# Altium integrated library TI Power Management Battery Management.IntLib: 949 symbols (part 24 of 62)
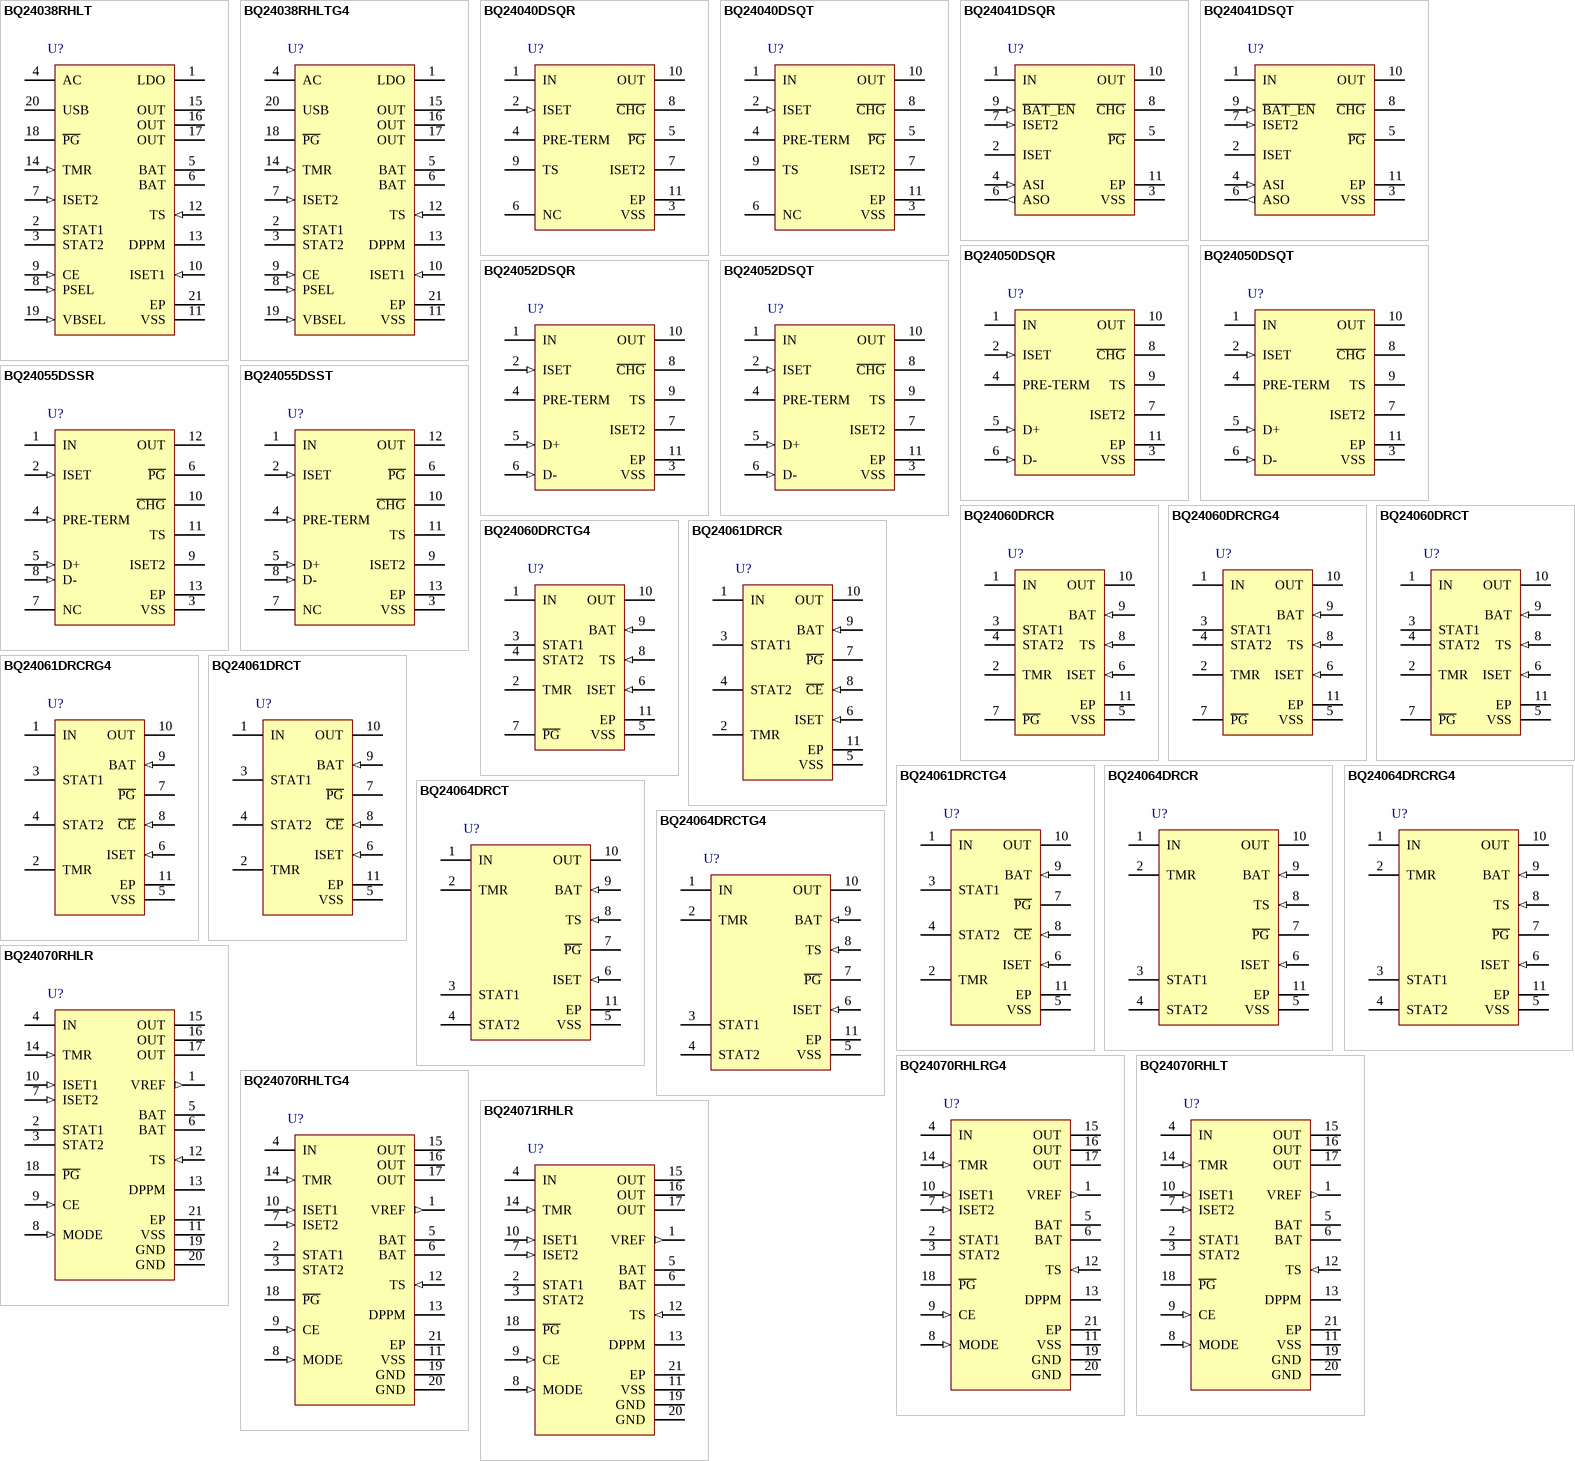
[diagram p57: symbols BQ24038RHLT to BQ24071RHLR]

## BQ24050DSQR
designator U?
800 mA, Single-Input, Single Cell Li-Ion Battery Charger with Automatic AC / USB Detection. Rntc=10k, 3.5 V, 10-pin SON (DSQ), Green (RoHS & no Sb/Br); PartNumber: BQ24050DSQR; Manufacturer: Texas Instruments; Lead Acid: N; SubFamily: Battery Charge Management; Vin(Min)(V): 3.5; DatasheetVersion: SLUS940B; PackageVersion: revB, Apr-2010; PackageReference: DSQ10-1500X900TP; PackageDescription: 10-Pin Plastic Small Outline No-Lead, 2 x 2 x 0.8 mm Body, 0.4 mm Pitch, Exposed Pad; Supplier 1: Digi-Key; Supplier Part Number 1: BQ24050DSQR-ND; Supplier 2: Newark; Supplier Part Number 2: 50R7515; Supplier 3: Mouser; Supplier Part Number 3: 595-BQ24050DSQR; Eco-Plan: Green (RoHS & no Sb/Br); Li-Ion: N; Li-Polymer: N; NiCd: N; NiMH: N; Over Voltage Protection: N; Mounting Technology: Surface Mount; ComponentLink1Description: Datasheet; ComponentLink1URL: http://www.ti.com/general/docs/lit/getliterature.tsp?genericPartNumber=BQ24050&fileType=pdf
footprint DSQ10-1500X900TP (SON, 10-Leads, Body 2x2mm, Pitch 0.4mm, Thermal Pad 1.5x0.9mm, TI Recommended)
pins: 1 IN (power) "Input power, connected to external DC supply (AC adapter or USB port). Expected range of bypass capacitors 1 uF to 10 uF, connect from IN to VSS.", 2 ISET (in) "Programs the Fast-charge current setting. External resistor from ISET to VSS defines fast charge current value. Range is 10.8k (50mA) to 675 ohm (800mA).", 3 VSS (power) "Ground terminal.", 4 PRE-TERM "Programs the Current Termination Threshold (5 to 50% of Iout which is set by ISET) and Sets the Pre-Charge Current to twice the Termination Current Level. Expected range of programming resistor is 1k to 10 k ohm(2k: IOUT / (See Datasheet)", 5 D+ (in) "USB port D+ input connection.", 6 D- (in) "USB port D- input connection.", 7 ISET2 "Programming the Input / Output Current Limit for the USB or Adaptor source: High =500 mA max, Low = ISET, FLOAT = 100mA max. D+ D- Detection initially sets the charge threshold and requires ISET2 to change states to take (See Datasheet)", 8 ~{CHG} (hiz) "Low (FET on) indicates charging and Open Drain (FET off) indicates no Charging or Charge complete.", 9 TS "Temperature sense pin connected to ' 0/55 -10k at 25C NTC thermistor, ' 2 - 100k NTC at 25 degC, in the battery pack. Floating TS Pin or pulling High puts part in TTDM and disable TS monitoring, Timers and Termination. (See Datasheet)", 10 OUT (power) "Battery Connection. System Load may be connected. Average load should not be excessive, allowing battery to charge within the 10 hour safety timer window. Expected range of bypass capacitors 1 uF to 10 uF.", 11 EP (power) "There is an internal electrical connection between the exposed thermal pad and the VSS pin of the device. The thermal pad must be connected to the same potential as the VSS pin on the printed circuit board. Do not use the (See Datasheet)"

## BQ24050DSQT
designator U?
800 mA, Single-Input, Single Cell Li-Ion Battery Charger with Automatic AC / USB Detection. Rntc=10k, 3.5 V, 10-pin SON (DSQ), Green (RoHS & no Sb/Br); PartNumber: BQ24050DSQT; Manufacturer: Texas Instruments; Lead Acid: N; SubFamily: Battery Charge Management; Vin(Min)(V): 3.5; DatasheetVersion: SLUS940B; PackageVersion: revB, Apr-2010; PackageReference: DSQ10-1500X900TP; PackageDescription: 10-Pin Plastic Small Outline No-Lead, 2 x 2 x 0.8 mm Body, 0.4 mm Pitch, Exposed Pad; Supplier 1: Digi-Key; Supplier Part Number 1: 296-25138-2-ND; Supplier 2: Digi-Key; Supplier Part Number 2: 296-25138-1-ND; Supplier 3: Digi-Key; Supplier Part Number 3: 296-25138-6-ND; Supplier 4: Farnell; Supplier Part Number 4: 1771741; Supplier 5: Farnell; Supplier Part Number 5: 1771741RL; Supplier 6: Newark; Supplier Part Number 6: 29R0265; Supplier 7: Mouser; Supplier Part Number 7: 595-BQ24050DSQT; Eco-Plan: Green (RoHS & no Sb/Br); Li-Ion: N; Li-Polymer: N; NiCd: N; NiMH: N; Over Voltage Protection: N; Mounting Technology: Surface Mount; ComponentLink1Description: Datasheet; ComponentLink1URL: http://www.ti.com/general/docs/lit/getliterature.tsp?genericPartNumber=BQ24050&fileType=pdf
footprint DSQ10-1500X900TP (SON, 10-Leads, Body 2x2mm, Pitch 0.4mm, Thermal Pad 1.5x0.9mm, TI Recommended)
pins: 1 IN (power) "Input power, connected to external DC supply (AC adapter or USB port). Expected range of bypass capacitors 1 uF to 10 uF, connect from IN to VSS.", 2 ISET (in) "Programs the Fast-charge current setting. External resistor from ISET to VSS defines fast charge current value. Range is 10.8k (50mA) to 675 ohm (800mA).", 3 VSS (power) "Ground terminal.", 4 PRE-TERM "Programs the Current Termination Threshold (5 to 50% of Iout which is set by ISET) and Sets the Pre-Charge Current to twice the Termination Current Level. Expected range of programming resistor is 1k to 10 k ohm(2k: IOUT / (See Datasheet)", 5 D+ (in) "USB port D+ input connection.", 6 D- (in) "USB port D- input connection.", 7 ISET2 "Programming the Input / Output Current Limit for the USB or Adaptor source: High =500 mA max, Low = ISET, FLOAT = 100mA max. D+ D- Detection initially sets the charge threshold and requires ISET2 to change states to take (See Datasheet)", 8 ~{CHG} (hiz) "Low (FET on) indicates charging and Open Drain (FET off) indicates no Charging or Charge complete.", 9 TS "Temperature sense pin connected to ' 0/55 -10k at 25C NTC thermistor, ' 2 - 100k NTC at 25 degC, in the battery pack. Floating TS Pin or pulling High puts part in TTDM and disable TS monitoring, Timers and Termination. (See Datasheet)", 10 OUT (power) "Battery Connection. System Load may be connected. Average load should not be excessive, allowing battery to charge within the 10 hour safety timer window. Expected range of bypass capacitors 1 uF to 10 uF.", 11 EP (power) "There is an internal electrical connection between the exposed thermal pad and the VSS pin of the device. The thermal pad must be connected to the same potential as the VSS pin on the printed circuit board. Do not use the (See Datasheet)"

## BQ24052DSQR
designator U?
800 mA, Single-Input, Single Cell Li-Ion Battery Charger with Automatic AC / USB Detection, Rntc=100k, 3.5 V, 10-pin SON (DSQ), Green (RoHS & no Sb/Br); PartNumber: BQ24052DSQR; Manufacturer: Texas Instruments; Lead Acid: N; SubFamily: Battery Charge Management; Vin(Min)(V): 3.5; DatasheetVersion: SLUS940B; PackageVersion: revB, Apr-2010; PackageReference: DSQ10-1500X900TP; PackageDescription: 10-Pin Plastic Small Outline No-Lead, 2 x 2 x 0.8 mm Body, 0.4 mm Pitch, Exposed Pad; Supplier 1: Digi-Key; Supplier Part Number 1: BQ24052DSQR-ND; Supplier 2: Mouser; Supplier Part Number 2: 595-BQ24052DSQR; Eco-Plan: Green (RoHS & no Sb/Br); Li-Ion: N; Li-Polymer: N; NiCd: N; NiMH: N; Over Voltage Protection: N; Mounting Technology: Surface Mount; ComponentLink1Description: Datasheet; ComponentLink1URL: http://www.ti.com/general/docs/lit/getliterature.tsp?genericPartNumber=BQ24052&fileType=pdf
footprint DSQ10-1500X900TP (SON, 10-Leads, Body 2x2mm, Pitch 0.4mm, Thermal Pad 1.5x0.9mm, TI Recommended)
pins: 1 IN (power) "Input power, connected to external DC supply (AC adapter or USB port). Expected range of bypass capacitors 1 uF to 10 uF, connect from IN to VSS.", 2 ISET (in) "Programs the Fast-charge current setting. External resistor from ISET to VSS defines fast charge current value. Range is 10.8k  (50mA) to 675 ohm (800mA).", 3 VSS (power) "Ground terminal", 4 PRE-TERM "Programs the Current Termination Threshold (5 to 50% of Iout which is set by ISET) and Sets the Pre-Charge Current to twice the Termination Current Level.Expected range of programming resistor is 1k to 10k ohm (2k: IOUT/10 (See Datasheet)", 5 D+ (in) "USB port D+ input connection", 6 D- (in) "USB port D- input connection", 7 ISET2 "Programming the Input/Output Current Limit for the USB or Adaptor source: High = 500mAmax, Low = ISET, FLOAT = 100mA max. D+D- Detection initially sets the charge threshold and requires ISET2 to change states to take control.", 8 ~{CHG} (hiz) "Low (FET on) indicates charging and Open Drain (FET off) indicates no Charging or Charge complete.", 9 TS "Temperature sense pin connected to 100k NTC at 25 degC, in the battery pack. Floating TS Pin or pulling High puts part in TTDM and disable TS monitoring, Timers and Termination. Pulling pin Low disables the IC (CE function). (See Datasheet)", 10 OUT (power) "Battery Connection. System Load may be connected. Average load should not be excessive, allowing battery to charge within the 10 hour safety timer window. Expected range of bypass capacitors 1uF to 10uF.", 11 EP (power) "There is an internal electrical connection between the exposed thermal pad and the VSS pin of the device. The thermal pad must be connected to the same potential as the VSS pin on the printed circuit board. Do not use the (See Datasheet)"

## BQ24052DSQT
designator U?
800 mA, Single-Input, Single Cell Li-Ion Battery Charger with Automatic AC / USB Detection, Rntc=100k, 3.5 V, 10-pin SON (DSQ), Green (RoHS & no Sb/Br); PartNumber: BQ24052DSQT; Manufacturer: Texas Instruments; Lead Acid: N; SubFamily: Battery Charge Management; Vin(Min)(V): 3.5; DatasheetVersion: SLUS940B; PackageVersion: revB, Apr-2010; PackageReference: DSQ10-1500X900TP; PackageDescription: 10-Pin Plastic Small Outline No-Lead, 2 x 2 x 0.8 mm Body, 0.4 mm Pitch, Exposed Pad; Supplier 1: Digi-Key; Supplier Part Number 1: 296-25139-2-ND; Supplier 2: Digi-Key; Supplier Part Number 2: 296-25139-1-ND; Supplier 3: Digi-Key; Supplier Part Number 3: 296-25139-6-ND; Supplier 4: Newark; Supplier Part Number 4: 50R7517; Supplier 5: Mouser; Supplier Part Number 5: 595-BQ24052DSQT; Eco-Plan: Green (RoHS & no Sb/Br); Li-Ion: N; Li-Polymer: N; NiCd: N; NiMH: N; Over Voltage Protection: N; Mounting Technology: Surface Mount; ComponentLink1Description: Datasheet; ComponentLink1URL: http://www.ti.com/general/docs/lit/getliterature.tsp?genericPartNumber=BQ24052&fileType=pdf
footprint DSQ10-1500X900TP (SON, 10-Leads, Body 2x2mm, Pitch 0.4mm, Thermal Pad 1.5x0.9mm, TI Recommended)
pins: 1 IN (power) "Input power, connected to external DC supply (AC adapter or USB port). Expected range of bypass capacitors 1 uF to 10 uF, connect from IN to VSS.", 2 ISET (in) "Programs the Fast-charge current setting. External resistor from ISET to VSS defines fast charge current value. Range is 10.8k  (50mA) to 675 ohm (800mA).", 3 VSS (power) "Ground terminal", 4 PRE-TERM "Programs the Current Termination Threshold (5 to 50% of Iout which is set by ISET) and Sets the Pre-Charge Current to twice the Termination Current Level.Expected range of programming resistor is 1k to 10k ohm (2k: IOUT/10 (See Datasheet)", 5 D+ (in) "USB port D+ input connection", 6 D- (in) "USB port D- input connection", 7 ISET2 "Programming the Input/Output Current Limit for the USB or Adaptor source: High = 500mAmax, Low = ISET, FLOAT = 100mA max. D+D- Detection initially sets the charge threshold and requires ISET2 to change states to take control.", 8 ~{CHG} (hiz) "Low (FET on) indicates charging and Open Drain (FET off) indicates no Charging or Charge complete.", 9 TS "Temperature sense pin connected to 100k NTC at 25 degC, in the battery pack. Floating TS Pin or pulling High puts part in TTDM and disable TS monitoring, Timers and Termination. Pulling pin Low disables the IC (CE function). (See Datasheet)", 10 OUT (power) "Battery Connection. System Load may be connected. Average load should not be excessive, allowing battery to charge within the 10 hour safety timer window. Expected range of bypass capacitors 1uF to 10uF.", 11 EP (power) "There is an internal electrical connection between the exposed thermal pad and the VSS pin of the device. The thermal pad must be connected to the same potential as the VSS pin on the printed circuit board. Do not use the (See Datasheet)"

## BQ24055DSSR
designator U?
800 mA, Single-Input, Single Cell Li-Ion Battery Charger with Automatic AC / USB Detection and PG, 3.5 V, 12-pin SON (DSS), Green (RoHS & no Sb/Br); PartNumber: BQ24055DSSR; Manufacturer: Texas Instruments; Lead Acid: N; SubFamily: Battery Charge Management; Vin(Min)(V): 3.5; DatasheetVersion: SLUS940B; PackageVersion: revC, Jul-2011; PackageReference: DSS12-2000X900TP; PackageDescription: 12-Pin Plastic Small Outline No-Lead, 2 x 3 x 0.8 mm Body, 0.5 mm Pitch, Exposed Pad; Supplier 1: Digi-Key; Supplier Part Number 1: BQ24055DSSR-ND; Supplier 2: Newark; Supplier Part Number 2: 50R7518; Supplier 3: Mouser; Supplier Part Number 3: 595-BQ24055DSSR; Eco-Plan: Green (RoHS & no Sb/Br); Li-Ion: N; Li-Polymer: N; NiCd: N; NiMH: N; Over Voltage Protection: N; Mounting Technology: Surface Mount; ComponentLink1Description: Datasheet; ComponentLink1URL: http://www.ti.com/general/docs/lit/getliterature.tsp?genericPartNumber=BQ24055&fileType=pdf
footprint DSS12-2000X900TP (SON, 12-Leads, Body 2x3mm, Pitch 0.5mm, Thermal Pad 2x0.9mm, TI Recommended)
pins: 1 IN (power) "Input power, connected to external DC supply (AC adapter or USB port). Expected range of bypass capacitors 1uF to 10uF, connect from IN to VSS.", 2 ISET (in) "Programs the Fast-charge current setting. External resistor from ISET to VSS defines fast charge current value. Range is 10.8k (50mA) to 675 ohm (800mA).", 3 VSS (power) "Ground terminal", 4 PRE-TERM (in) "Programs the Current Termination Threshold (5 to 50% of Iout which is set by ISET) and Sets the Pre-Charge Current to twice the Termination Current Level.Expected range of programming resistor is 1k to 10k ohm (2k: IOUT/10 (See Datasheet)", 5 D+ (in) "USB port D+ input connection", 6 ~{PG} (hiz) "Low (FET on) indicates the input voltage is above UVLO and the OUT (battery) voltage and less than VOVP", 7 NC "Do not make connection to this pin (internal use) - Do not route through this pin", 8 D- (in) "USB port D- input connection", 9 ISET2 "Programming the Input/Output Current Limit for the USB or Adaptor source: High = 500mAmax, Low = ISET, FLOAT = 100mA max. D+D- Detection initially sets the charge threshold and requires ISET2 to change states to take control.", 10 ~{CHG} (hiz) "Low (FET on) indicates charging and Open Drain (FET off) indicates no Charging or Charge complete.", 11 TS "Temperature sense pin connected to ‘50/55 -10k at 25C NTC thermistor,  in the battery pack. Floating TS Pin or pulling High puts part in TTDM and disable TS monitoring, Timers and Termination. Pulling pin Low disables the IC (See Datasheet)", 12 OUT (power) "Battery Connection. System Load may be connected. Average load should not be excessive, allowing battery to charge within the 10 hour safety timer window. Expected range of bypass capacitors 1uF to 10uF.", 13 EP (power) "There is an internal electrical connection between the exposed thermal pad and the VSS pin of the device. The thermal pad must be connected to the same potential as the VSS pin on the printed circuit board. Do not use the (See Datasheet)"

## BQ24055DSST
designator U?
800 mA, Single-Input, Single Cell Li-Ion Battery Charger with Automatic AC / USB Detection and PG, 3.5 V, 12-pin SON (DSS), Green (RoHS & no Sb/Br); PartNumber: BQ24055DSST; Manufacturer: Texas Instruments; Lead Acid: N; SubFamily: Battery Charge Management; Vin(Min)(V): 3.5; DatasheetVersion: SLUS940B; PackageVersion: revC, Jul-2011; PackageReference: DSS12-2000X900TP; PackageDescription: 12-Pin Plastic Small Outline No-Lead, 2 x 3 x 0.8 mm Body, 0.5 mm Pitch, Exposed Pad; Supplier 1: Digi-Key; Supplier Part Number 1: 296-25140-2-ND; Supplier 2: Digi-Key; Supplier Part Number 2: 296-25140-1-ND; Supplier 3: Digi-Key; Supplier Part Number 3: 296-25140-6-ND; Supplier 4: Farnell; Supplier Part Number 4: 1771742; Supplier 5: Farnell; Supplier Part Number 5: 1771742RL; Supplier 6: Newark; Supplier Part Number 6: 29R0266; Supplier 7: Mouser; Supplier Part Number 7: 595-BQ24055DSST; Eco-Plan: Green (RoHS & no Sb/Br); Li-Ion: N; Li-Polymer: N; NiCd: N; NiMH: N; Over Voltage Protection: N; Mounting Technology: Surface Mount; ComponentLink1Description: Datasheet; ComponentLink1URL: http://www.ti.com/general/docs/lit/getliterature.tsp?genericPartNumber=BQ24055&fileType=pdf
footprint DSS12-2000X900TP (SON, 12-Leads, Body 2x3mm, Pitch 0.5mm, Thermal Pad 2x0.9mm, TI Recommended)
pins: 1 IN (power) "Input power, connected to external DC supply (AC adapter or USB port). Expected range of bypass capacitors 1uF to 10uF, connect from IN to VSS.", 2 ISET (in) "Programs the Fast-charge current setting. External resistor from ISET to VSS defines fast charge current value. Range is 10.8k (50mA) to 675 ohm (800mA).", 3 VSS (power) "Ground terminal", 4 PRE-TERM (in) "Programs the Current Termination Threshold (5 to 50% of Iout which is set by ISET) and Sets the Pre-Charge Current to twice the Termination Current Level.Expected range of programming resistor is 1k to 10k ohm (2k: IOUT/10 (See Datasheet)", 5 D+ (in) "USB port D+ input connection", 6 ~{PG} (hiz) "Low (FET on) indicates the input voltage is above UVLO and the OUT (battery) voltage and less than VOVP", 7 NC "Do not make connection to this pin (internal use) - Do not route through this pin", 8 D- (in) "USB port D- input connection", 9 ISET2 "Programming the Input/Output Current Limit for the USB or Adaptor source: High = 500mAmax, Low = ISET, FLOAT = 100mA max. D+D- Detection initially sets the charge threshold and requires ISET2 to change states to take control.", 10 ~{CHG} (hiz) "Low (FET on) indicates charging and Open Drain (FET off) indicates no Charging or Charge complete.", 11 TS "Temperature sense pin connected to ‘50/55 -10k at 25C NTC thermistor,  in the battery pack. Floating TS Pin or pulling High puts part in TTDM and disable TS monitoring, Timers and Termination. Pulling pin Low disables the IC (See Datasheet)", 12 OUT (power) "Battery Connection. System Load may be connected. Average load should not be excessive, allowing battery to charge within the 10 hour safety timer window. Expected range of bypass capacitors 1uF to 10uF.", 13 EP (power) "There is an internal electrical connection between the exposed thermal pad and the VSS pin of the device. The thermal pad must be connected to the same potential as the VSS pin on the printed circuit board. Do not use the (See Datasheet)"

## BQ24060DRCR
designator U?
Linear 1-Cell Li-Ion Charger with Thermal Regulation, 6.5 V OVP, Temp Sense, 4.3 V, -40 to 85 degC, 10-pin SON (DRC), Green (RoHS & no Sb/Br); PartNumber: BQ24060DRCR; Manufacturer: Texas Instruments; Lead Acid: N; Li-Ion: Y; SubFamily: Battery Charge Management; Vin(Min)(V): 4.3; DatasheetVersion: SLUS689A; PackageVersion: revL, Sep-2011; PackageReference: DRC10-2400X1650TP; PackageDescription: 10-Pin Plastic Small Outline No-Lead, 3 x 3 x 1 mm Body, 0.5 mm Pitch, Exposed Pad; Supplier 1: Digi-Key; Supplier Part Number 1: BQ24060DRCR-ND; Supplier 2: Newark; Supplier Part Number 2: 02M9366; Supplier 3: Mouser; Supplier Part Number 3: 595-BQ24060DRCR; Eco-Plan: Green (RoHS & no Sb/Br); Li-Polymer: Y; NiCd: N; NiMH: N; Over Voltage Protection: N; Mounting Technology: Surface Mount; ComponentLink1Description: Datasheet; ComponentLink1URL: http://www.ti.com/general/docs/lit/getliterature.tsp?genericPartNumber=BQ24060&fileType=pdf
footprint DRC10-2400X1650TP (SON, 10-Leads, Body 3x3mm, Pitch 0.5mm, Thermal Pad 2.4x1.65mm, TI Recommended)
pins: 1 IN (power) "Charge Input Voltage and internal supply. Connect a 1- uF (minimum) capacitor from IN to VSS. CIN>= COUT", 2 TMR "Safety Timer Program Input, timer disabled if floating. Connect a resistor to VSS pin to program safety timer timeout value", 3 STAT1 (hiz) "Charge Status Output 1 (open-collector, seeTable 3)", 4 STAT2 (hiz) "Charge Status Output 2 (open-collector, see Table 3)", 5 VSS (power) "Ground", 6 ISET (in) "Charge current set point, resistor connected from ISET to VSS sets charge current value. Connect a 0.47-uF capaciator from BAT to ISET.", 7 ~{PG} (hiz) "Power Good status output (open-collector), active low", 8 TS (in) "Temperature Sense Input, connect to battery pack thermistor. Connect an external resistive divider to program temperature thresholds.", 9 BAT (in) "Battery Voltage Sense Input. Connect to the battery positive terminal. Connect a 200-ohm resistor from BAT to OUT.", 10 OUT (power) "Charge current output. Connect to the battery positive terminal. Connect a 1- uF (minimum) capacitor from OUT to VSS.", 11 EP (power) "There is an internal electrical connection between the exposed thermal pad and Vss pin of the IC. The exposed thermal pad must be connected to the same potential as the VSS pin on the printed circuit board. Do not use the (See Datasheet)"

## BQ24060DRCRG4
designator U?
Linear 1-Cell Li-Ion Charger with Thermal Regulation, 6.5 V OVP, Temp Sense, 4.3 V, -40 to 85 degC, 10-pin SON (DRC), Green (RoHS & no Sb/Br); PartNumber: BQ24060DRCRG4; Manufacturer: Texas Instruments; Lead Acid: N; Li-Ion: Y; SubFamily: Battery Charge Management; Vin(Min)(V): 4.3; DatasheetVersion: SLUS689A; PackageVersion: revL, Sep-2011; PackageReference: DRC10-2400X1650TP; PackageDescription: 10-Pin Plastic Small Outline No-Lead, 3 x 3 x 1 mm Body, 0.5 mm Pitch, Exposed Pad; Supplier 1: Digi-Key; Supplier Part Number 1: BQ24060DRCRG4-ND; Supplier 2: Newark; Supplier Part Number 2: 03M6538; Supplier 3: Mouser; Supplier Part Number 3: 595-BQ24060DRCRG4; Eco-Plan: Green (RoHS & no Sb/Br); Li-Polymer: Y; NiCd: N; NiMH: N; Over Voltage Protection: N; Mounting Technology: Surface Mount; ComponentLink1Description: Datasheet; ComponentLink1URL: http://www.ti.com/general/docs/lit/getliterature.tsp?genericPartNumber=BQ24060&fileType=pdf
footprint DRC10-2400X1650TP (SON, 10-Leads, Body 3x3mm, Pitch 0.5mm, Thermal Pad 2.4x1.65mm, TI Recommended)
pins: 1 IN (power) "Charge Input Voltage and internal supply. Connect a 1- uF (minimum) capacitor from IN to VSS. CIN>= COUT", 2 TMR "Safety Timer Program Input, timer disabled if floating. Connect a resistor to VSS pin to program safety timer timeout value", 3 STAT1 (hiz) "Charge Status Output 1 (open-collector, seeTable 3)", 4 STAT2 (hiz) "Charge Status Output 2 (open-collector, see Table 3)", 5 VSS (power) "Ground", 6 ISET (in) "Charge current set point, resistor connected from ISET to VSS sets charge current value. Connect a 0.47-uF capaciator from BAT to ISET.", 7 ~{PG} (hiz) "Power Good status output (open-collector), active low", 8 TS (in) "Temperature Sense Input, connect to battery pack thermistor. Connect an external resistive divider to program temperature thresholds.", 9 BAT (in) "Battery Voltage Sense Input. Connect to the battery positive terminal. Connect a 200-ohm resistor from BAT to OUT.", 10 OUT (power) "Charge current output. Connect to the battery positive terminal. Connect a 1- uF (minimum) capacitor from OUT to VSS.", 11 EP (power) "There is an internal electrical connection between the exposed thermal pad and Vss pin of the IC. The exposed thermal pad must be connected to the same potential as the VSS pin on the printed circuit board. Do not use the (See Datasheet)"

## BQ24060DRCT
designator U?
Linear 1-Cell Li-Ion Charger with Thermal Regulation, 6.5 V OVP, Temp Sense, 4.3 V, -40 to 85 degC, 10-pin SON (DRC), Green (RoHS & no Sb/Br); PartNumber: BQ24060DRCT; Manufacturer: Texas Instruments; Lead Acid: N; Li-Ion: Y; SubFamily: Battery Charge Management; Vin(Min)(V): 4.3; DatasheetVersion: SLUS689A; PackageVersion: revL, Sep-2011; PackageReference: DRC10-2400X1650TP; PackageDescription: 10-Pin Plastic Small Outline No-Lead, 3 x 3 x 1 mm Body, 0.5 mm Pitch, Exposed Pad; Supplier 1: Digi-Key; Supplier Part Number 1: 296-19867-2-ND; Supplier 2: Digi-Key; Supplier Part Number 2: 296-19867-1-ND; Supplier 3: Digi-Key; Supplier Part Number 3: 296-19867-6-ND; Supplier 4: Newark; Supplier Part Number 4: 02M9367; Supplier 5: Mouser; Supplier Part Number 5: 595-BQ24060DRCT; Eco-Plan: Green (RoHS & no Sb/Br); Li-Polymer: Y; NiCd: N; NiMH: N; Over Voltage Protection: N; Mounting Technology: Surface Mount; ComponentLink1Description: Datasheet; ComponentLink1URL: http://www.ti.com/general/docs/lit/getliterature.tsp?genericPartNumber=BQ24060&fileType=pdf
footprint DRC10-2400X1650TP (SON, 10-Leads, Body 3x3mm, Pitch 0.5mm, Thermal Pad 2.4x1.65mm, TI Recommended)
pins: 1 IN (power) "Charge Input Voltage and internal supply. Connect a 1- uF (minimum) capacitor from IN to VSS. CIN>= COUT", 2 TMR "Safety Timer Program Input, timer disabled if floating. Connect a resistor to VSS pin to program safety timer timeout value", 3 STAT1 (hiz) "Charge Status Output 1 (open-collector, seeTable 3)", 4 STAT2 (hiz) "Charge Status Output 2 (open-collector, see Table 3)", 5 VSS (power) "Ground", 6 ISET (in) "Charge current set point, resistor connected from ISET to VSS sets charge current value. Connect a 0.47-uF capaciator from BAT to ISET.", 7 ~{PG} (hiz) "Power Good status output (open-collector), active low", 8 TS (in) "Temperature Sense Input, connect to battery pack thermistor. Connect an external resistive divider to program temperature thresholds.", 9 BAT (in) "Battery Voltage Sense Input. Connect to the battery positive terminal. Connect a 200-ohm resistor from BAT to OUT.", 10 OUT (power) "Charge current output. Connect to the battery positive terminal. Connect a 1- uF (minimum) capacitor from OUT to VSS.", 11 EP (power) "There is an internal electrical connection between the exposed thermal pad and Vss pin of the IC. The exposed thermal pad must be connected to the same potential as the VSS pin on the printed circuit board. Do not use the (See Datasheet)"

## BQ24060DRCTG4
designator U?
Linear 1-Cell Li-Ion Charger with Thermal Regulation, 6.5 V OVP, Temp Sense, 4.3 V, -40 to 85 degC, 10-pin SON (DRC), Green (RoHS & no Sb/Br); PartNumber: BQ24060DRCTG4; Manufacturer: Texas Instruments; Lead Acid: N; Li-Ion: Y; SubFamily: Battery Charge Management; Vin(Min)(V): 4.3; DatasheetVersion: SLUS689A; PackageVersion: revL, Sep-2011; PackageReference: DRC10-2400X1650TP; PackageDescription: 10-Pin Plastic Small Outline No-Lead, 3 x 3 x 1 mm Body, 0.5 mm Pitch, Exposed Pad; Supplier 1: Digi-Key; Supplier Part Number 1: BQ24060DRCTG4-ND; Supplier 2: Newark; Supplier Part Number 2: 03M6539; Supplier 3: Mouser; Supplier Part Number 3: 595-BQ24060DRCTG4; Eco-Plan: Green (RoHS & no Sb/Br); Li-Polymer: Y; NiCd: N; NiMH: N; Over Voltage Protection: N; Mounting Technology: Surface Mount; ComponentLink1Description: Datasheet; ComponentLink1URL: http://www.ti.com/general/docs/lit/getliterature.tsp?genericPartNumber=BQ24060&fileType=pdf
footprint DRC10-2400X1650TP (SON, 10-Leads, Body 3x3mm, Pitch 0.5mm, Thermal Pad 2.4x1.65mm, TI Recommended)
pins: 1 IN (power) "Charge Input Voltage and internal supply. Connect a 1- uF (minimum) capacitor from IN to VSS. CIN>= COUT", 2 TMR "Safety Timer Program Input, timer disabled if floating. Connect a resistor to VSS pin to program safety timer timeout value", 3 STAT1 (hiz) "Charge Status Output 1 (open-collector, seeTable 3)", 4 STAT2 (hiz) "Charge Status Output 2 (open-collector, see Table 3)", 5 VSS (power) "Ground", 6 ISET (in) "Charge current set point, resistor connected from ISET to VSS sets charge current value. Connect a 0.47-uF capaciator from BAT to ISET.", 7 ~{PG} (hiz) "Power Good status output (open-collector), active low", 8 TS (in) "Temperature Sense Input, connect to battery pack thermistor. Connect an external resistive divider to program temperature thresholds.", 9 BAT (in) "Battery Voltage Sense Input. Connect to the battery positive terminal. Connect a 200-ohm resistor from BAT to OUT.", 10 OUT (power) "Charge current output. Connect to the battery positive terminal. Connect a 1- uF (minimum) capacitor from OUT to VSS.", 11 EP (power) "There is an internal electrical connection between the exposed thermal pad and Vss pin of the IC. The exposed thermal pad must be connected to the same potential as the VSS pin on the printed circuit board. Do not use the (See Datasheet)"

## BQ24061DRCR
designator U?
Linear 1-Cell Li-Ion Charger with Thermal Regulation, 6.5 V OVP, Charge Enable, 4.3 V, -40 to 85 degC, 10-pin SON (DRC), Green (RoHS & no Sb/Br); PartNumber: BQ24061DRCR; Manufacturer: Texas Instruments; Lead Acid: N; Li-Ion: Y; SubFamily: Battery Charge Management; Vin(Min)(V): 4.3; DatasheetVersion: SLUS689A; PackageVersion: revL, Sep-2011; PackageReference: DRC10-2400X1650TP; PackageDescription: 10-Pin Plastic Small Outline No-Lead, 3 x 3 x 1 mm Body, 0.5 mm Pitch, Exposed Pad; Supplier 1: Digi-Key; Supplier Part Number 1: 296-19868-2-ND; Supplier 2: Digi-Key; Supplier Part Number 2: 296-19868-1-ND; Supplier 3: Digi-Key; Supplier Part Number 3: 296-19868-6-ND; Supplier 4: Newark; Supplier Part Number 4: 02M9368; Supplier 5: Mouser; Supplier Part Number 5: 595-BQ24061DRCR; Eco-Plan: Green (RoHS & no Sb/Br); Li-Polymer: Y; NiCd: N; NiMH: N; Over Voltage Protection: N; Mounting Technology: Surface Mount; ComponentLink1Description: Datasheet; ComponentLink1URL: http://www.ti.com/general/docs/lit/getliterature.tsp?genericPartNumber=BQ24061&fileType=pdf
footprint DRC10-2400X1650TP (SON, 10-Leads, Body 3x3mm, Pitch 0.5mm, Thermal Pad 2.4x1.65mm, TI Recommended)
pins: 1 IN (power) "Charge Input Voltage and internal supply. Connect a 1- uF (minimum) capacitor from IN to VSS. CIN>= COUT", 2 TMR "Safety Timer Program Input, timer disabled if floating. Connect a resistor to VSS pin to program safety timer timeout value", 3 STAT1 (hiz) "Charge Status Output 1 (open-collector, seeTable 3)", 4 STAT2 (hiz) "Charge Status Output 2 (open-collector, see Table 3)", 5 VSS (power) "Ground", 6 ISET (in) "Charge current set point, resistor connected from ISET to VSS sets charge current value. Connect a 0.47-uF capaciator from BAT to ISET.", 7 ~{PG} (hiz) "Power Good status output (open-collector), active low", 8 ~{CE} (in) "Charge enable Input. C\E\ = LO enables charger. C\E\ = HI disables charger.", 9 BAT (in) "Battery Voltage Sense Input. Connect to the battery positive terminal. Connect a 200-ohm resistor from BAT to OUT.", 10 OUT (power) "Charge current output. Connect to the battery positive terminal. Connect a 1- uF (minimum) capacitor from OUT to VSS.", 11 EP (power) "There is an internal electrical connection between the exposed thermal pad and Vss pin of the IC. The exposed thermal pad must be connected to the same potential as the VSS pin on the printed circuit board. Do not use the (See Datasheet)"

## BQ24061DRCRG4
designator U?
Linear 1-Cell Li-Ion Charger with Thermal Regulation, 6.5 V OVP, Charge Enable, 4.3 V, -40 to 85 degC, 10-pin SON (DRC), Green (RoHS & no Sb/Br); PartNumber: BQ24061DRCRG4; Manufacturer: Texas Instruments; Lead Acid: N; Li-Ion: Y; SubFamily: Battery Charge Management; Vin(Min)(V): 4.3; DatasheetVersion: SLUS689A; PackageVersion: revL, Sep-2011; PackageReference: DRC10-2400X1650TP; PackageDescription: 10-Pin Plastic Small Outline No-Lead, 3 x 3 x 1 mm Body, 0.5 mm Pitch, Exposed Pad; Supplier 1: Digi-Key; Supplier Part Number 1: BQ24061DRCRG4-ND; Supplier 2: Newark; Supplier Part Number 2: 03M6540; Supplier 3: Mouser; Supplier Part Number 3: 595-BQ24061DRCRG4; Eco-Plan: Green (RoHS & no Sb/Br); Li-Polymer: Y; NiCd: N; NiMH: N; Over Voltage Protection: N; Mounting Technology: Surface Mount; ComponentLink1Description: Datasheet; ComponentLink1URL: http://www.ti.com/general/docs/lit/getliterature.tsp?genericPartNumber=BQ24061&fileType=pdf
footprint DRC10-2400X1650TP (SON, 10-Leads, Body 3x3mm, Pitch 0.5mm, Thermal Pad 2.4x1.65mm, TI Recommended)
pins: 1 IN (power) "Charge Input Voltage and internal supply. Connect a 1- uF (minimum) capacitor from IN to VSS. CIN>= COUT", 2 TMR "Safety Timer Program Input, timer disabled if floating. Connect a resistor to VSS pin to program safety timer timeout value", 3 STAT1 (hiz) "Charge Status Output 1 (open-collector, seeTable 3)", 4 STAT2 (hiz) "Charge Status Output 2 (open-collector, see Table 3)", 5 VSS (power) "Ground", 6 ISET (in) "Charge current set point, resistor connected from ISET to VSS sets charge current value. Connect a 0.47-uF capaciator from BAT to ISET.", 7 ~{PG} (hiz) "Power Good status output (open-collector), active low", 8 ~{CE} (in) "Charge enable Input. C\E\ = LO enables charger. C\E\ = HI disables charger.", 9 BAT (in) "Battery Voltage Sense Input. Connect to the battery positive terminal. Connect a 200-ohm resistor from BAT to OUT.", 10 OUT (power) "Charge current output. Connect to the battery positive terminal. Connect a 1- uF (minimum) capacitor from OUT to VSS.", 11 EP (power) "There is an internal electrical connection between the exposed thermal pad and Vss pin of the IC. The exposed thermal pad must be connected to the same potential as the VSS pin on the printed circuit board. Do not use the (See Datasheet)"

## BQ24061DRCT
designator U?
Linear 1-Cell Li-Ion Charger with Thermal Regulation, 6.5 V OVP, Charge Enable, 4.3 V, -40 to 85 degC, 10-pin SON (DRC), Green (RoHS & no Sb/Br); PartNumber: BQ24061DRCT; Manufacturer: Texas Instruments; Lead Acid: N; Li-Ion: Y; SubFamily: Battery Charge Management; Vin(Min)(V): 4.3; DatasheetVersion: SLUS689A; PackageVersion: revL, Sep-2011; PackageReference: DRC10-2400X1650TP; PackageDescription: 10-Pin Plastic Small Outline No-Lead, 3 x 3 x 1 mm Body, 0.5 mm Pitch, Exposed Pad; Supplier 1: Digi-Key; Supplier Part Number 1: 296-32023-2-ND; Supplier 2: Digi-Key; Supplier Part Number 2: 296-32023-1-ND; Supplier 3: Digi-Key; Supplier Part Number 3: 296-32023-6-ND; Supplier 4: Newark; Supplier Part Number 4: 02M9369; Supplier 5: Mouser; Supplier Part Number 5: 595-BQ24061DRCT; Eco-Plan: Green (RoHS & no Sb/Br); Li-Polymer: Y; NiCd: N; NiMH: N; Over Voltage Protection: N; Mounting Technology: Surface Mount; ComponentLink1Description: Datasheet; ComponentLink1URL: http://www.ti.com/general/docs/lit/getliterature.tsp?genericPartNumber=BQ24061&fileType=pdf
footprint DRC10-2400X1650TP (SON, 10-Leads, Body 3x3mm, Pitch 0.5mm, Thermal Pad 2.4x1.65mm, TI Recommended)
pins: 1 IN (power) "Charge Input Voltage and internal supply. Connect a 1- uF (minimum) capacitor from IN to VSS. CIN>= COUT", 2 TMR "Safety Timer Program Input, timer disabled if floating. Connect a resistor to VSS pin to program safety timer timeout value", 3 STAT1 (hiz) "Charge Status Output 1 (open-collector, seeTable 3)", 4 STAT2 (hiz) "Charge Status Output 2 (open-collector, see Table 3)", 5 VSS (power) "Ground", 6 ISET (in) "Charge current set point, resistor connected from ISET to VSS sets charge current value. Connect a 0.47-uF capaciator from BAT to ISET.", 7 ~{PG} (hiz) "Power Good status output (open-collector), active low", 8 ~{CE} (in) "Charge enable Input. C\E\ = LO enables charger. C\E\ = HI disables charger.", 9 BAT (in) "Battery Voltage Sense Input. Connect to the battery positive terminal. Connect a 200-ohm resistor from BAT to OUT.", 10 OUT (power) "Charge current output. Connect to the battery positive terminal. Connect a 1- uF (minimum) capacitor from OUT to VSS.", 11 EP (power) "There is an internal electrical connection between the exposed thermal pad and Vss pin of the IC. The exposed thermal pad must be connected to the same potential as the VSS pin on the printed circuit board. Do not use the (See Datasheet)"

## BQ24061DRCTG4
designator U?
Linear 1-Cell Li-Ion Charger with Thermal Regulation, 6.5 V OVP, Charge Enable, 4.3 V, -40 to 85 degC, 10-pin SON (DRC), Green (RoHS & no Sb/Br); PartNumber: BQ24061DRCTG4; Manufacturer: Texas Instruments; Lead Acid: N; Li-Ion: Y; SubFamily: Battery Charge Management; Vin(Min)(V): 4.3; DatasheetVersion: SLUS689A; PackageVersion: revL, Sep-2011; PackageReference: DRC10-2400X1650TP; PackageDescription: 10-Pin Plastic Small Outline No-Lead, 3 x 3 x 1 mm Body, 0.5 mm Pitch, Exposed Pad; Supplier 1: Digi-Key; Supplier Part Number 1: BQ24061DRCTG4-ND; Supplier 2: Newark; Supplier Part Number 2: 03M6541; Supplier 3: Mouser; Supplier Part Number 3: 595-BQ24061DRCTG4; Eco-Plan: Green (RoHS & no Sb/Br); Li-Polymer: Y; NiCd: N; NiMH: N; Over Voltage Protection: N; Mounting Technology: Surface Mount; ComponentLink1Description: Datasheet; ComponentLink1URL: http://www.ti.com/general/docs/lit/getliterature.tsp?genericPartNumber=BQ24061&fileType=pdf
footprint DRC10-2400X1650TP (SON, 10-Leads, Body 3x3mm, Pitch 0.5mm, Thermal Pad 2.4x1.65mm, TI Recommended)
pins: 1 IN (power) "Charge Input Voltage and internal supply. Connect a 1- uF (minimum) capacitor from IN to VSS. CIN>= COUT", 2 TMR "Safety Timer Program Input, timer disabled if floating. Connect a resistor to VSS pin to program safety timer timeout value", 3 STAT1 (hiz) "Charge Status Output 1 (open-collector, seeTable 3)", 4 STAT2 (hiz) "Charge Status Output 2 (open-collector, see Table 3)", 5 VSS (power) "Ground", 6 ISET (in) "Charge current set point, resistor connected from ISET to VSS sets charge current value. Connect a 0.47-uF capaciator from BAT to ISET.", 7 ~{PG} (hiz) "Power Good status output (open-collector), active low", 8 ~{CE} (in) "Charge enable Input. C\E\ = LO enables charger. C\E\ = HI disables charger.", 9 BAT (in) "Battery Voltage Sense Input. Connect to the battery positive terminal. Connect a 200-ohm resistor from BAT to OUT.", 10 OUT (power) "Charge current output. Connect to the battery positive terminal. Connect a 1- uF (minimum) capacitor from OUT to VSS.", 11 EP (power) "There is an internal electrical connection between the exposed thermal pad and Vss pin of the IC. The exposed thermal pad must be connected to the same potential as the VSS pin on the printed circuit board. Do not use the (See Datasheet)"

## BQ24064DRCR
designator U?
Linear 1-Cell Li-Ion Charger with Thermal Regulation, 10.5 V OVP, Temp Sense, 4.3 V, -40 to 85 degC, 10-pin SON (DRC), Green (RoHS & no Sb/Br); PartNumber: BQ24064DRCR; Manufacturer: Texas Instruments; Lead Acid: N; Li-Ion: Y; SubFamily: Battery Charge Management; Vin(Min)(V): 4.3; DatasheetVersion: SLUS689A; PackageVersion: revL, Sep-2011; PackageReference: DRC10-2400X1650TP; PackageDescription: 10-Pin Plastic Small Outline No-Lead, 3 x 3 x 1 mm Body, 0.5 mm Pitch, Exposed Pad; Supplier 1: Digi-Key; Supplier Part Number 1: 296-19869-2-ND; Supplier 2: Digi-Key; Supplier Part Number 2: 296-19869-1-ND; Supplier 3: Digi-Key; Supplier Part Number 3: 296-19869-6-ND; Supplier 4: Newark; Supplier Part Number 4: 02M9370; Supplier 5: Mouser; Supplier Part Number 5: 595-BQ24064DRCR; Eco-Plan: Green (RoHS & no Sb/Br); Li-Polymer: Y; NiCd: N; NiMH: N; Over Voltage Protection: N; Mounting Technology: Surface Mount; ComponentLink1Description: Datasheet; ComponentLink1URL: http://www.ti.com/general/docs/lit/getliterature.tsp?genericPartNumber=BQ24064&fileType=pdf
footprint DRC10-2400X1650TP (SON, 10-Leads, Body 3x3mm, Pitch 0.5mm, Thermal Pad 2.4x1.65mm, TI Recommended)
pins: 1 IN (power) "Charge Input Voltage and internal supply. Connect a 1- uF (minimum) capacitor from IN to VSS. CIN>= COUT", 2 TMR "Safety Timer Program Input, timer disabled if floating. Connect a resistor to VSS pin to program safety timer timeout value", 3 STAT1 (hiz) "Charge Status Output 1 (open-collector, seeTable 3)", 4 STAT2 (hiz) "Charge Status Output 2 (open-collector, see Table 3)", 5 VSS (power) "Ground", 6 ISET (in) "Charge current set point, resistor connected from ISET to VSS sets charge current value. Connect a 0.47-uF capaciator from BAT to ISET.", 7 ~{PG} (hiz) "Power Good status output (open-collector), active low", 8 TS (in) "Temperature Sense Input, connect to battery pack thermistor. Connect an external resistive divider to program temperature thresholds.", 9 BAT (in) "Battery Voltage Sense Input. Connect to the battery positive terminal. Connect a 200-ohm resistor from BAT to OUT.", 10 OUT (power) "Charge current output. Connect to the battery positive terminal. Connect a 1- uF (minimum) capacitor from OUT to VSS.", 11 EP (power) "There is an internal electrical connection between the exposed thermal pad and Vss pin of the IC. The exposed thermal pad must be connected to the same potential as the VSS pin on the printed circuit board. Do not use the (See Datasheet)"

## BQ24064DRCRG4
designator U?
Linear 1-Cell Li-Ion Charger with Thermal Regulation, 10.5 V OVP, Temp Sense, 4.3 V, -40 to 85 degC, 10-pin SON (DRC), Green (RoHS & no Sb/Br); PartNumber: BQ24064DRCRG4; Manufacturer: Texas Instruments; Lead Acid: N; Li-Ion: Y; SubFamily: Battery Charge Management; Vin(Min)(V): 4.3; DatasheetVersion: SLUS689A; PackageVersion: revL, Sep-2011; PackageReference: DRC10-2400X1650TP; PackageDescription: 10-Pin Plastic Small Outline No-Lead, 3 x 3 x 1 mm Body, 0.5 mm Pitch, Exposed Pad; Supplier 1: Digi-Key; Supplier Part Number 1: BQ24064DRCRG4-ND; Supplier 2: Newark; Supplier Part Number 2: 03M6542; Supplier 3: Mouser; Supplier Part Number 3: 595-BQ24064DRCRG4; Eco-Plan: Green (RoHS & no Sb/Br); Li-Polymer: Y; NiCd: N; NiMH: N; Over Voltage Protection: N; Mounting Technology: Surface Mount; ComponentLink1Description: Datasheet; ComponentLink1URL: http://www.ti.com/general/docs/lit/getliterature.tsp?genericPartNumber=BQ24064&fileType=pdf
footprint DRC10-2400X1650TP (SON, 10-Leads, Body 3x3mm, Pitch 0.5mm, Thermal Pad 2.4x1.65mm, TI Recommended)
pins: 1 IN (power) "Charge Input Voltage and internal supply. Connect a 1- uF (minimum) capacitor from IN to VSS. CIN>= COUT", 2 TMR "Safety Timer Program Input, timer disabled if floating. Connect a resistor to VSS pin to program safety timer timeout value", 3 STAT1 (hiz) "Charge Status Output 1 (open-collector, seeTable 3)", 4 STAT2 (hiz) "Charge Status Output 2 (open-collector, see Table 3)", 5 VSS (power) "Ground", 6 ISET (in) "Charge current set point, resistor connected from ISET to VSS sets charge current value. Connect a 0.47-uF capaciator from BAT to ISET.", 7 ~{PG} (hiz) "Power Good status output (open-collector), active low", 8 TS (in) "Temperature Sense Input, connect to battery pack thermistor. Connect an external resistive divider to program temperature thresholds.", 9 BAT (in) "Battery Voltage Sense Input. Connect to the battery positive terminal. Connect a 200-ohm resistor from BAT to OUT.", 10 OUT (power) "Charge current output. Connect to the battery positive terminal. Connect a 1- uF (minimum) capacitor from OUT to VSS.", 11 EP (power) "There is an internal electrical connection between the exposed thermal pad and Vss pin of the IC. The exposed thermal pad must be connected to the same potential as the VSS pin on the printed circuit board. Do not use the (See Datasheet)"

## BQ24064DRCT
designator U?
Linear 1-Cell Li-Ion Charger with Thermal Regulation, 10.5 V OVP, Temp Sense, 4.3 V, -40 to 85 degC, 10-pin SON (DRC), Green (RoHS & no Sb/Br); PartNumber: BQ24064DRCT; Manufacturer: Texas Instruments; Lead Acid: N; Li-Ion: Y; SubFamily: Battery Charge Management; Vin(Min)(V): 4.3; DatasheetVersion: SLUS689A; PackageVersion: revL, Sep-2011; PackageReference: DRC10-2400X1650TP; PackageDescription: 10-Pin Plastic Small Outline No-Lead, 3 x 3 x 1 mm Body, 0.5 mm Pitch, Exposed Pad; Supplier 1: Digi-Key; Supplier Part Number 1: BQ24064DRCT-ND; Supplier 2: Newark; Supplier Part Number 2: 02M9371; Supplier 3: Mouser; Supplier Part Number 3: 595-BQ24064DRCT; Eco-Plan: Green (RoHS & no Sb/Br); Li-Polymer: Y; NiCd: N; NiMH: N; Over Voltage Protection: N; Mounting Technology: Surface Mount; ComponentLink1Description: Datasheet; ComponentLink1URL: http://www.ti.com/general/docs/lit/getliterature.tsp?genericPartNumber=BQ24064&fileType=pdf
footprint DRC10-2400X1650TP (SON, 10-Leads, Body 3x3mm, Pitch 0.5mm, Thermal Pad 2.4x1.65mm, TI Recommended)
pins: 1 IN (power) "Charge Input Voltage and internal supply. Connect a 1- uF (minimum) capacitor from IN to VSS. CIN>= COUT", 2 TMR "Safety Timer Program Input, timer disabled if floating. Connect a resistor to VSS pin to program safety timer timeout value", 3 STAT1 (hiz) "Charge Status Output 1 (open-collector, seeTable 3)", 4 STAT2 (hiz) "Charge Status Output 2 (open-collector, see Table 3)", 5 VSS (power) "Ground", 6 ISET (in) "Charge current set point, resistor connected from ISET to VSS sets charge current value. Connect a 0.47-uF capaciator from BAT to ISET.", 7 ~{PG} (hiz) "Power Good status output (open-collector), active low", 8 TS (in) "Temperature Sense Input, connect to battery pack thermistor. Connect an external resistive divider to program temperature thresholds.", 9 BAT (in) "Battery Voltage Sense Input. Connect to the battery positive terminal. Connect a 200-ohm resistor from BAT to OUT.", 10 OUT (power) "Charge current output. Connect to the battery positive terminal. Connect a 1- uF (minimum) capacitor from OUT to VSS.", 11 EP (power) "There is an internal electrical connection between the exposed thermal pad and Vss pin of the IC. The exposed thermal pad must be connected to the same potential as the VSS pin on the printed circuit board. Do not use the (See Datasheet)"

## BQ24064DRCTG4
designator U?
Linear 1-Cell Li-Ion Charger with Thermal Regulation, 10.5 V OVP, Temp Sense, 4.3 V, -40 to 85 degC, 10-pin SON (DRC), Green (RoHS & no Sb/Br); PartNumber: BQ24064DRCTG4; Manufacturer: Texas Instruments; Lead Acid: N; Li-Ion: Y; SubFamily: Battery Charge Management; Vin(Min)(V): 4.3; DatasheetVersion: SLUS689A; PackageVersion: revL, Sep-2011; PackageReference: DRC10-2400X1650TP; PackageDescription: 10-Pin Plastic Small Outline No-Lead, 3 x 3 x 1 mm Body, 0.5 mm Pitch, Exposed Pad; Supplier 1: Digi-Key; Supplier Part Number 1: BQ24064DRCTG4-ND; Supplier 2: Newark; Supplier Part Number 2: 03M6543; Supplier 3: Mouser; Supplier Part Number 3: 595-BQ24064DRCTG4; Eco-Plan: Green (RoHS & no Sb/Br); Li-Polymer: Y; NiCd: N; NiMH: N; Over Voltage Protection: N; Mounting Technology: Surface Mount; ComponentLink1Description: Datasheet; ComponentLink1URL: http://www.ti.com/general/docs/lit/getliterature.tsp?genericPartNumber=BQ24064&fileType=pdf
footprint DRC10-2400X1650TP (SON, 10-Leads, Body 3x3mm, Pitch 0.5mm, Thermal Pad 2.4x1.65mm, TI Recommended)
pins: 1 IN (power) "Charge Input Voltage and internal supply. Connect a 1- uF (minimum) capacitor from IN to VSS. CIN>= COUT", 2 TMR "Safety Timer Program Input, timer disabled if floating. Connect a resistor to VSS pin to program safety timer timeout value", 3 STAT1 (hiz) "Charge Status Output 1 (open-collector, seeTable 3)", 4 STAT2 (hiz) "Charge Status Output 2 (open-collector, see Table 3)", 5 VSS (power) "Ground", 6 ISET (in) "Charge current set point, resistor connected from ISET to VSS sets charge current value. Connect a 0.47-uF capaciator from BAT to ISET.", 7 ~{PG} (hiz) "Power Good status output (open-collector), active low", 8 TS (in) "Temperature Sense Input, connect to battery pack thermistor. Connect an external resistive divider to program temperature thresholds.", 9 BAT (in) "Battery Voltage Sense Input. Connect to the battery positive terminal. Connect a 200-ohm resistor from BAT to OUT.", 10 OUT (power) "Charge current output. Connect to the battery positive terminal. Connect a 1- uF (minimum) capacitor from OUT to VSS.", 11 EP (power) "There is an internal electrical connection between the exposed thermal pad and Vss pin of the IC. The exposed thermal pad must be connected to the same potential as the VSS pin on the printed circuit board. Do not use the (See Datasheet)"

## BQ24070RHLR
designator U?
Li-Ion Charger with Dynamic Power-Path Management, Output regulated to 4.4 V, 4.3 V, -40 to 85 degC, 20-pin QFN (RHL), Green (RoHS & no Sb/Br); PartNumber: BQ24070RHLR; Manufacturer: Texas Instruments; Lead Acid: N; Li-Ion: Y; SubFamily: Battery Charge Management; Vin(Min)(V): 4.3; DatasheetVersion: SLUS694F; PackageVersion: revJ, Dec-2011; PackageReference: RHL20-3050X2050TP; PackageDescription: 20-Leads Plastic Quad Flatpack No-Lead, 4.5 x 3.5 x 0.9 mm Body, 0.5 mm Pitch, Exposed Pad; Supplier 1: Digi-Key; Supplier Part Number 1: 296-19652-2-ND; Supplier 2: Digi-Key; Supplier Part Number 2: 296-19652-1-ND; Supplier 3: Digi-Key; Supplier Part Number 3: 296-19652-6-ND; Supplier 4: Farnell; Supplier Part Number 4: 2120171; Supplier 5: Newark; Supplier Part Number 5: 85K0180; Supplier 6: Mouser; Supplier Part Number 6: 595-BQ24070RHLR; Eco-Plan: Green (RoHS & no Sb/Br); Li-Polymer: Y; NiCd: N; NiMH: N; Over Voltage Protection: N; Mounting Technology: Surface Mount; ComponentLink1Description: Datasheet; ComponentLink1URL: http://www.ti.com/general/docs/lit/getliterature.tsp?genericPartNumber=BQ24070&fileType=pdf
footprint RHL20-3050X2050TP (QFN, 20-Leads, Body 4.5x3.5mm, Pitch 0.5mm, Thermal Pad 3.05x2.05mm, TI Recommended)
pins: 1 VREF (out) "Internal reference signal", 2 STAT1 (oc) "Charge status output 1 (open-drain)", 3 STAT2 (oc) "Charge status output 2 (open-drain)", 4 IN (power) "Charge input voltage", 5 BAT (power) "Battery input and output.", 6 BAT (power) "Battery input and output.", 7 ISET2 (in) "Charge current set point for USB port. (High = 500 mA, Low = 100 mA) See half-charge current mode using ISET2.", 8 MODE (in) "Power source selection input (Low for USB mode current limit)", 9 CE (in) "Chip enable input (active high)", 10 ISET1 (in) "Charge current set point and precharge and termination set point", 11 VSS (power) "Ground input (the thermal pad on the underside of the package) There is an internal electrical connection between the exposed thermal pad and VSS pin of the device. The exposed thermal pad must be connected to the same (See Datasheet)", 12 TS (in) "Temperature sense input", 13 DPPM "Dynamic power-path management set point (account for scale factor)", 14 TMR (in) "Timer program input programmed by resistor. Disable fast-charge safety timer and termination by tying TMR to VREF.", 15 OUT (power) "Output terminal to the system", 16 OUT (power) "Output terminal to the system", 17 OUT (power) "Output terminal to the system", 18 ~{PG} (oc) "Power-good status output (open-drain)", 19 GND (power) "Ground input", 20 GND (power) "Ground input", 21 EP (power) "Exposed Pad"